# Altium schematic symbol library IC_AnalogDevices_AD8608ARZ-REEL.SchLib: 2 symbols
Pins are listed as number, name and electrical type; pins without a type are passive.

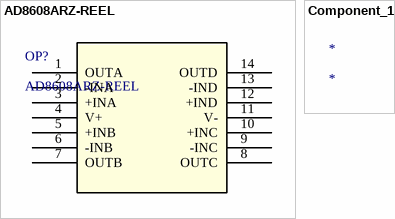
[diagram p0: symbols AD8608ARZ-REEL to Component_1]

## AD8608ARZ-REEL
designator OP?
IC OPAMP GP 4 CIRCUIT 14SOIC; Built_By: EMA_UL_Team; Vendor: Analog Devices Inc; SourceLibrary: Analog_2012-01-01_6; Manufacturer_Part_Number: AD8608ARZ-REEL; Copyright: Copyright (C) 2018 Accelerated Designs. All rights reserved; RefDes: RefDes; Type: DEV
footprint R_14_ADI-M
pins: 1 OUTA, 2 -INA, 3 +INA, 4 V+ (power), 5 +INB, 6 -INB, 7 OUTB, 8 OUTC, 9 -INC, 10 +INC, 11 V- (power), 12 +IND, 13 -IND, 14 OUTD

## Component_1
designator *